# Altium footprint library SO8-SPE-HI8591.PcbLib: 1 footprints
Each footprint in its own frame and in the unit in brackets; x right, y up, seen from the top. Pads: shape width x height; smd on the part's side, far side on the other; paste and mask are expansions set on the pad; w line width, h text height; cw(c..) or ccw(c..) is an arc to the next point about the centre after c.
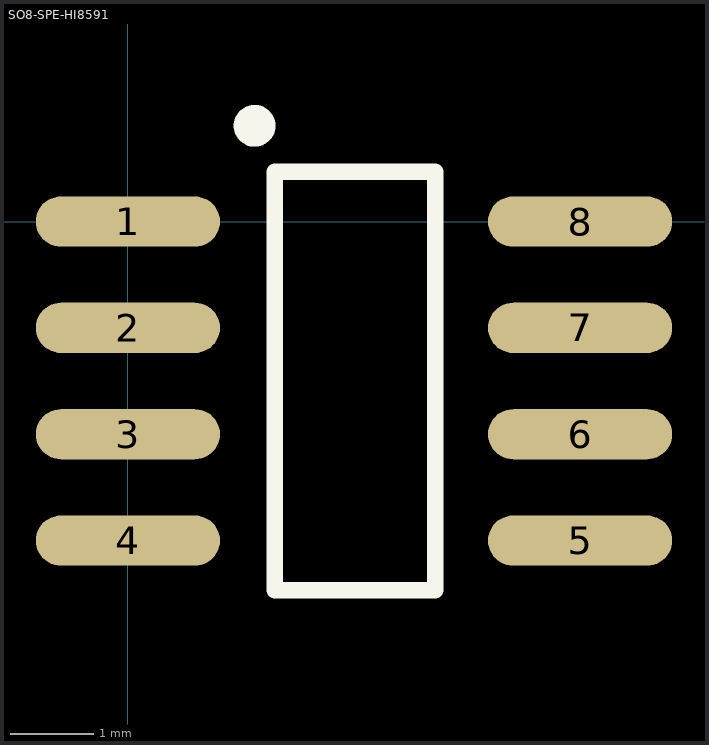
[diagram p0: the footprint, top view; thin cyan lines are the x and y axes]

## SO8-SPE-HI8591 [mm]
height 1.75
pads (8):
  oval 2.2x0.6 smd: 1(0,0) 2(0,-1.27) 3(0,-2.54) 4(0,-3.81) 5(5.4,-3.81) 6(5.4,-2.54) 7(5.4,-1.27) 8(5.4,0)
Top Overlay:
  circle w0.25: c1.513,1.143 r0.125
  lines w0.2: 1.754,-4.405 3.67,-4.405 3.67,0.595 1.754,0.595 1.754,-4.405
3D body: height 1.73, standoff -0.04, extent -0.287,-4.35 5.85,0.54